# EAGLE library part PLCC-84 (library Signetics)
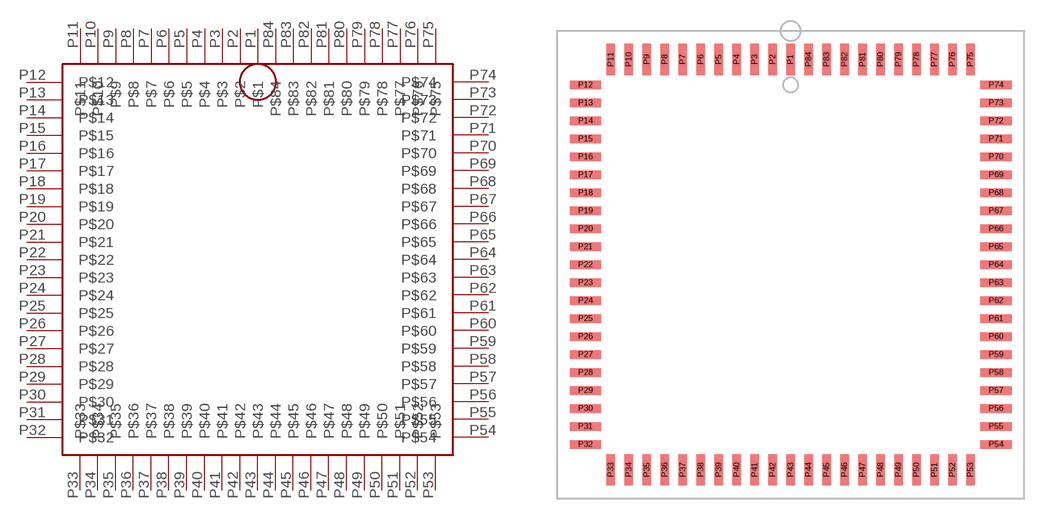
[diagram p3: symbol with the pads of PLCC-84; footprint PLCC-84]

Designator prefix -

## PLCC-84  [PLCC-84]
P1  P$1
P2  P$2
P3  P$3
P4  P$4
P5  P$5
P6  P$6
P7  P$7
P8  P$8
P9  P$9
P10  P$10
P11  P$11
P12  P$12
P13  P$13
P14  P$14
P15  P$15
P16  P$16
P17  P$17
P18  P$18
P19  P$19
P20  P$20
P21  P$21
P22  P$22
P23  P$23
P24  P$24
P25  P$25
P26  P$26
P27  P$27
P28  P$28
P29  P$29
P30  P$30
P31  P$31
P32  P$32
P33  P$33
P34  P$34
P35  P$35
P36  P$36
P37  P$37
P38  P$38
P39  P$39
P40  P$40
P41  P$41
P42  P$42
P43  P$43
P44  P$44
P45  P$45
P46  P$46
P47  P$47
P48  P$48
P49  P$49
P50  P$50
P51  P$51
P52  P$52
P53  P$53
P54  P$54
P55  P$55
P56  P$56
P57  P$57
P58  P$58
P59  P$59
P60  P$60
P61  P$61
P62  P$62
P63  P$63
P64  P$64
P65  P$65
P66  P$66
P67  P$67
P68  P$68
P69  P$69
P70  P$70
P71  P$71
P72  P$72
P73  P$73
P74  P$74
P75  P$75
P76  P$76
P77  P$77
P78  P$78
P79  P$79
P80  P$80
P81  P$81
P82  P$82
P83  P$83
P84  P$84

## Footprint PLCC-84 (pad centres in mm)
smd 0.6 x 2.2: P1 0,14.5; P2 -1.27,14.5; P3 -2.54,14.5; P4 -3.81,14.5; P5 -5.08,14.5; P6 -6.35,14.5; P7 -7.62,14.5; P8 -8.89,14.5; P9 -10.16,14.5; P10 -11.43,14.5; P11 -12.7,14.5; P33 -12.7,-14.5; P34 -11.43,-14.5; P35 -10.16,-14.5; P36 -8.89,-14.5; P37 -7.62,-14.5; P38 -6.35,-14.5; P39 -5.08,-14.5; P40 -3.81,-14.5; P41 -2.54,-14.5; P42 -1.27,-14.5; P43 0,-14.5; P44 1.27,-14.5; P45 2.54,-14.5; P46 3.81,-14.5; P47 5.08,-14.5; P48 6.35,-14.5; P49 7.62,-14.5; P50 8.89,-14.5; P51 10.16,-14.5; P52 11.43,-14.5; P53 12.7,-14.5; P75 12.7,14.5; P76 11.43,14.5; P77 10.16,14.5; P78 8.89,14.5; P79 7.62,14.5; P80 6.35,14.5; P81 5.08,14.5; P82 3.81,14.5; P83 2.54,14.5; P84 1.27,14.5
smd 2.2 x 0.6: P12 -14.5,12.7; P13 -14.5,11.43; P14 -14.5,10.16; P15 -14.5,8.89; P16 -14.5,7.62; P17 -14.5,6.35; P18 -14.5,5.08; P19 -14.5,3.81; P20 -14.5,2.54; P21 -14.5,1.27; P22 -14.5,0; P23 -14.5,-1.27; P24 -14.5,-2.54; P25 -14.5,-3.81; P26 -14.5,-5.08; P27 -14.5,-6.35; P28 -14.5,-7.62; P29 -14.5,-8.89; P30 -14.5,-10.16; P31 -14.5,-11.43; P32 -14.5,-12.7; P54 14.5,-12.7; P55 14.5,-11.43; P56 14.5,-10.16; P57 14.5,-8.89; P58 14.5,-7.62; P59 14.5,-6.35; P60 14.5,-5.08; P61 14.5,-3.81; P62 14.5,-2.54; P63 14.5,-1.27; P64 14.5,0; P65 14.5,1.27; P66 14.5,2.54; P67 14.5,3.81; P68 14.5,5.08; P69 14.5,6.35; P70 14.5,7.62; P71 14.5,8.89; P72 14.5,10.16; P73 14.5,11.43; P74 14.5,12.7